# Altium footprint library R-78B5.0-2.0.PcbLib: 1 footprints
Each footprint in its own frame and in the unit in brackets; x right, y up, seen from the top. Pads: shape width x height; smd on the part's side, far side on the other; paste and mask are expansions set on the pad; w line width, h text height; cw(c..) or ccw(c..) is an arc to the next point about the centre after c.
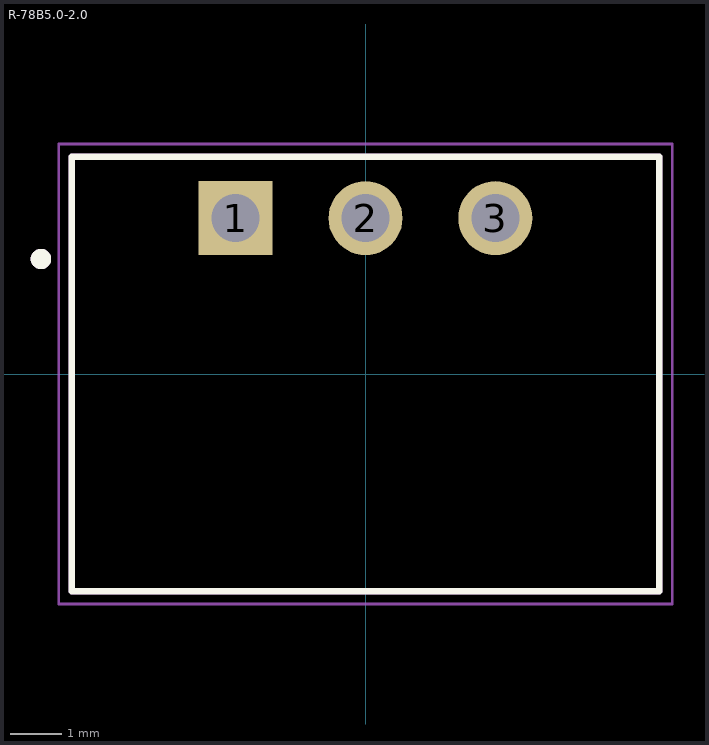
[diagram p0: the footprint, top view; thin cyan lines are the x and y axes]

## R-78B5.0-2.0 [mm]
pads (3):
  rect 1.448x1.448 hole 0.94: 1(-2.54,3.05)
  round 1.448 hole 0.94: 2(0,3.05) 3(2.54,3.05)
Top Overlay:
  circle w0.2: c-6.35,2.25 r0.1
  lines w0.127: -5.75,-4.25 5.75,-4.25 5.75,4.25 -5.75,4.25 -5.75,-4.25
Top 3D Body:
  circle w0.2: c-6.35,2.25 r0.1
  lines w0.127: -5.75,-4.25 5.75,-4.25 5.75,4.25 -5.75,4.25 -5.75,-4.25
Top Courtyard:
  lines w0.05: -6,-4.5 6,-4.5 6,4.5 -6,4.5 -6,-4.5
3D body "step_temp.STEP": height 17.5, standoff -4.1, extent -5.75,-4.25 5.75,4.25